# Altium footprint library zynq_bottomPCBLIB.PcbLib: 7 footprints
Each footprint in its own frame and in the unit in brackets; x right, y up, seen from the top. Pads: shape width x height; smd on the part's side, far side on the other; paste and mask are expansions set on the pad; w line width, h text height; cw(c..) or ccw(c..) is an arc to the next point about the centre after c.
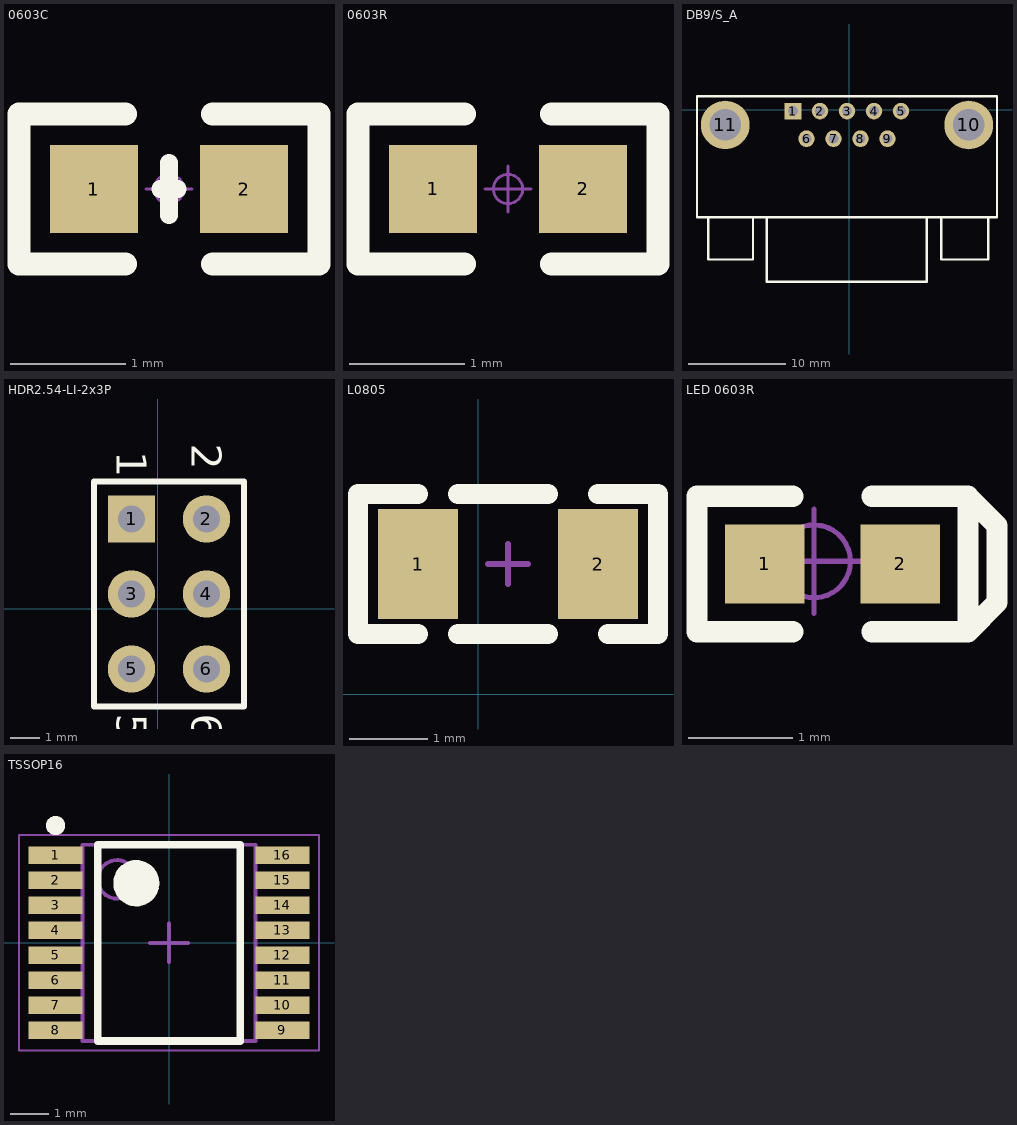
[diagram p0: the footprints below, top view; thin cyan lines are the x and y axes]

## 0603C [mil] "无极性电容"
pads (2):
  rect 30x30 smd: 1(55.41,147) 2(106.59,147)
Top Overlay:
  lines w6: 78,147 81,147 84,147 ; 81,138 81,156
  lines w8: 66,121.41 29.82,121.41 29.82,172.59 66,172.59 ; 96,121.41 132.18,121.41 132.18,172.59 96,172.59
Mechanical 15:
  circle w1: c81,147 r5
  lines w1: 73.13,147 88.87,147 ; 81,139.13 81,154.87
3D body "C 0603.STEP": height 31.89, standoff -0.39, extent 49.5,130.86 112.5,163.14

## 0603R [mil]
pads (2):
  rect 30x30 smd: 1(114.41,168) 2(165.59,168)
Top Overlay:
  lines w8: 125,142.41 88.82,142.41 88.82,193.59 125,193.59 ; 155,142.41 191.18,142.41 191.18,193.59 155,193.59
Mechanical 15:
  circle w1: c140,168 r5
  lines w1: 132.13,168 147.87,168 ; 140,160.13 140,175.87
3D body "R 0603-HP.STEP": height 15.79, standoff -0.16, extent 108.51,152.26 171.5,183.75

## DB9/S_A [mm] "9针母头串口,31*18.5*12.5mm"
pads (11):
  rect 1.7x1.7 hole 1: 1(-5.8,-0.127)
  round 1.7 hole 1: 2(-3.027,-0.127) 3(-0.254,-0.127) 4(2.519,-0.127) 5(5.292,-0.127) 6(-4.409,-2.967) 7(-1.639,-2.967) 8(1.131,-2.967) 9(3.901,-2.967)
  round 5 hole 3.25: 10(12.246,-1.547) 11(-12.754,-1.547)
Top Overlay:
  lines w0.254: -14.478,-11.049 -14.478,-15.367 -9.906,-15.367 -9.906,-11.049 ; -8.479,-11.049 -8.479,-17.653 7.921,-17.653 7.921,-11.049 ; 9.398,-11.049 9.398,-15.367 14.224,-15.367 14.224,-11.049 ; -15.654,-11.049 -15.654,1.397 15.146,1.397 15.146,-11.049 -15.654,-11.049
Mechanical 15:
  circle w0.05: c-0.254,-0.127 r0.35
  lines w0.05: -0.754,-0.127 0.246,-0.127 ; -0.254,-0.627 -0.254,0.373
3D body "DB9 公_A.STEP": height 12.65, standoff -3.16, extent -15.704,-17.374 15.196,1.126

## HDR2.54-LI-2x3P [mm]
pads (6):
  rect 1.6x1.6 hole 0.9: 1(-0.889,3.048)
  round 1.6 hole 0.9: 2(1.651,3.048) 3(-0.889,0.508) 4(1.651,0.508) 5(-0.889,-2.032) 6(1.651,-2.032)
Top Overlay:
  lines w0.2: -2.159,1.566 -2.159,-3.302 ; -2.159,-3.302 2.921,-3.302 2.921,4.318 -2.159,4.318 -2.159,-3.302
  text "6" at 1.143,-3.556 h1.02
  text "5" at -1.397,-3.556 h1.02
  text "2" at 1.143,5.588 h1.02
  text "1" at -1.397,5.334 h1.02
3D body "HDR2.54-1x2P.STEP": height 8.5, standoff -3, extent -2.159,-3.302 2.921,-0.762
3D body "HDR2.54-1x2P.STEP": height 8.5, standoff -3, extent -2.159,1.778 2.921,4.318
3D body "HDR2.54-1x2P.STEP": height 8.5, standoff -3, extent -2.159,-0.762 2.921,1.778

## L0805 [mil]
pads (2):
  rect 40x55 smd: 1(-30,65) 2(60,65)
Top Overlay:
  lines w10: -30,30 -60,30 -60,100 -30,100 ; -10,30 35,30 ; -10,100 35,100 ; 60,100 90,100 90,30 65,30
Mechanical 15:
  lines w3: 5,65 25,65 ; 15,55 15,75
3D body "0805.STEP": height 35.43, standoff -0.11, extent -24.37,41.38 54.37,88.62

## LED 0603R [mil] "红色LED灯"
pads (2):
  rect 30x30 smd: 1(45.41,114) 2(96.59,114)
Top Overlay:
  lines w8: 56,88.41 19.82,88.41 19.82,139.59 56,139.59 ; 86,88.41 122.18,88.41 ; 86,139.59 122.18,139.59 122.18,88.41 ; 123.18,138.59 133.18,128.59 133.18,99.41 122.18,88.41
Mechanical 15:
  circle w1.97: c64,115 r13.78
  lines w1.97: 44.31,115 83.69,115 ; 64,95.31 64,134.69
3D body "LED 0603玻璃罩.": height 0, standoff 0, extent 64,115 64,115
3D body "LED 0603-R.STEP": height 18.36, standoff -0.16, extent 40.5,99.21 103.5,130.79

## TSSOP16 [mm] "TSOP, 16-Leads, Body 5.00x4.39mm, Pitch 0.65mm, IPC Medium Density"
pads (16):
  rect 1.4x0.45 smd: 1(-2.95,2.275) 2(-2.95,1.625) 3(-2.95,0.975) 4(-2.95,0.325) 5(-2.95,-0.325) 6(-2.95,-0.975) 7(-2.95,-1.625) 8(-2.95,-2.275) 9(2.95,-2.275) 10(2.95,-1.625) 11(2.95,-0.975) 12(2.95,-0.325) 13(2.95,0.325) 14(2.95,0.975) 15(2.95,1.625) 16(2.95,2.275)
Top Overlay:
  circle w0.25: c-2.95,3.05 r0.125
  circle w0.6: c-0.85,1.55 r0.3
  lines w0.2: -1.85,-2.55 -1.85,2.55 1.85,2.55 1.85,-2.55 -1.85,-2.55
Mechanical 13:
  circle w0.1: c-1.35,1.65 r0.5
  lines w0.1: -2.25,-2.55 -2.25,2.55 2.25,2.55 2.25,-2.55 -2.25,-2.55
Mechanical 15:
  lines w0.05: -3.9,-2.8 -3.9,2.8 3.9,2.8 3.9,-2.8 -3.9,-2.8
  lines w0.1: -0.5,0 0.5,0 ; 0,-0.5 0,0.5
3D body "TSOP65P640X120-16N.step": height 1.2, standoff 0, extent -3.2,-2.55 3.2,2.55